# Altium integrated library PartsLib.IntLib: 63 symbols (part 2 of 3)
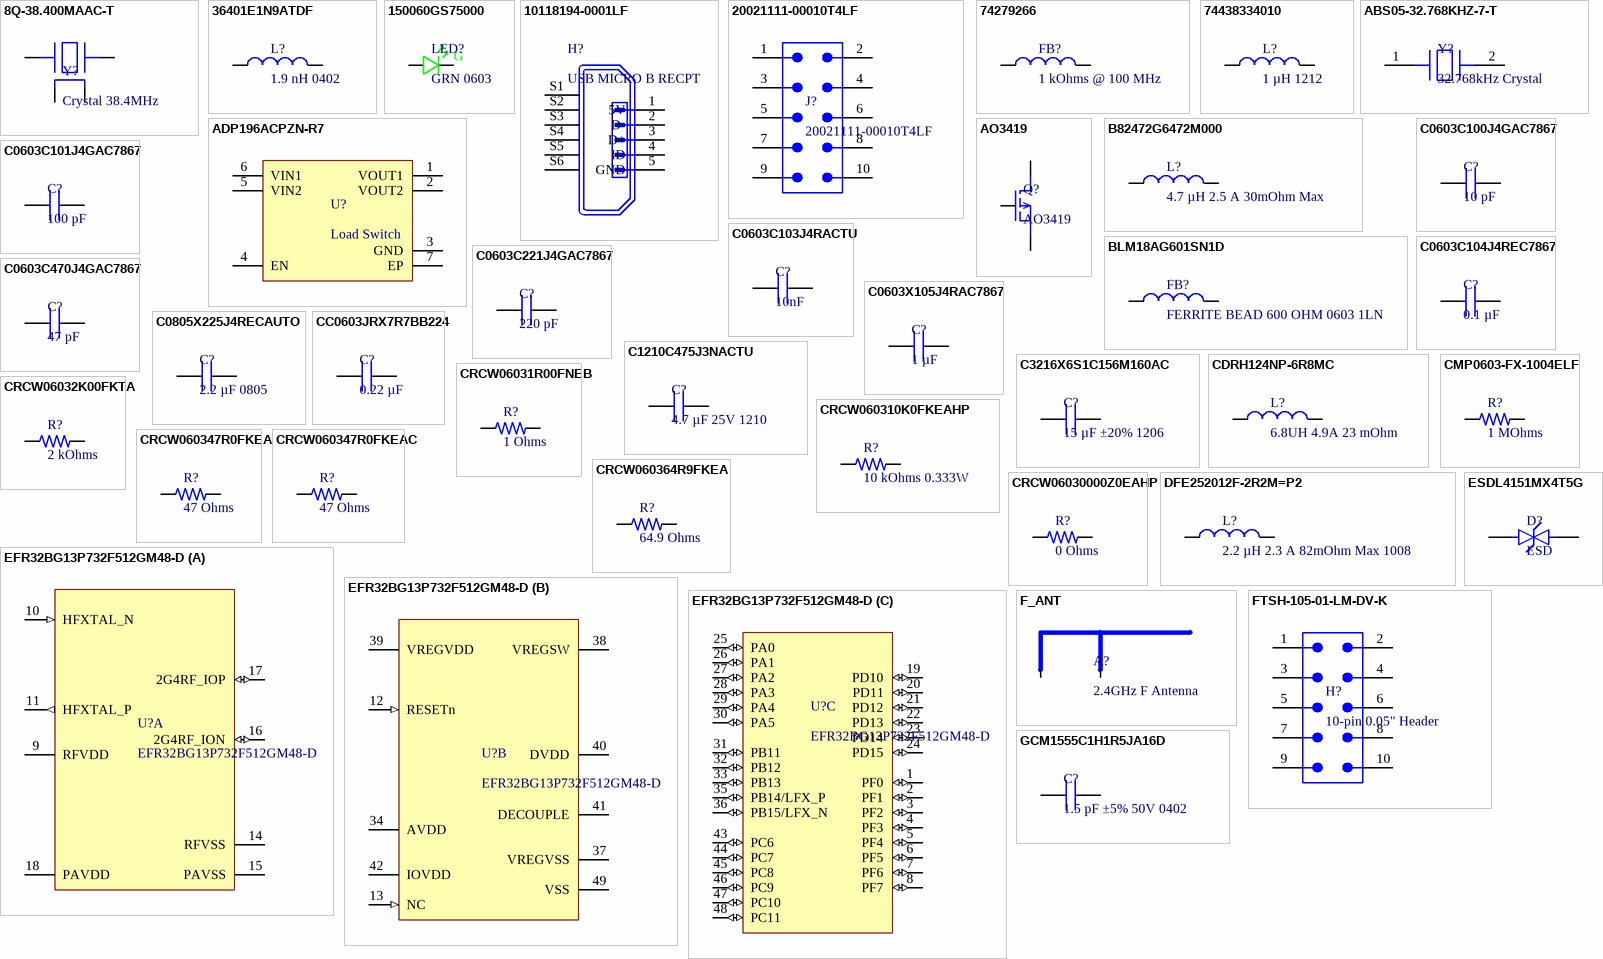
[diagram p2: symbols 8Q-38.400MAAC-T to GCM1555C1H1R5JA16D]

## CRCW060347R0FKEA
designator R?, comment 47 Ohms
Res Thick Film 0603 47 Ohm 1% 1/10W ±100ppm/°C Molded SMD Paper T/R; Manufacturer: Vishay; Manufacturer Part Number: CRCW060347R0FKEA; Resistance: 47R; Power Rating: 100mW; Voltage Rating: 75V; Supplier 1: Digi-Key; RoHS: Yes; Category: Chip SMD Resistors; Stock 1: 1816; Pricing 1: 1=0.10000, 10=0.03800, 100=0.01560, 1000=0.00701, 2500=0.00608 (USD); Mount: Surface Mount; Case/Package: 0603; Number of Pins: 2; Weight: 7.1E-05oz; Case Code (Metric): 1608; Case Code (Imperial): 0603; Contact Plating: Tin; Size Code: 0603; Min Operating Temperature: -55°C; Max Operating Temperature: 155°C; Resistor Type: Thick Film; Tolerance: 1%; Packaging: Tape and Reel; Package Quantity: 10; Number of Terminations: 2; Termination: SMD/SMT; Temperature Coefficient: 100ppm/°C; Max Power Dissipation: 100mW; Voltage Rating (DC): 75V; Features: Automotive AEC-Q200; Series: CRCW; Resistance Tolerance: 1%; Construction: Rectangular; Technology: THICK FILM; Length: 1.55mm; Width: 0.033inch; Height: 0.45mm; Depth: 0.85mm; Radiation Hardening: No; REACH SVHC: Unknown; Military Standard: Not; Lead Free: Lead Free; RoHS Compliant: Yes; ComponentLink1URL: https://datasheet.ciiva.com/11810/0900766b80d98afc-11810171.pdf?src-supplier=RSComponents; ComponentLink1Description: https://datasheet.ciiva.com/11810/0900766b80d98afc-11810171.pdf?src-supplier=RSComponents; ComponentLink2URL: https://datasheet.ciiva.com/2465/dcrcwe3-2465675.pdf?src-supplier=Digi-Key; ComponentLink2Description: https://datasheet.ciiva.com/2465/dcrcwe3-2465675.pdf?src-supplier=Digi-Key; ComponentLink3URL: https://datasheet.ciiva.com/2465/dcrcwe3-2465676.pdf?src-supplier=Digi-Key; ComponentLink3Description: https://datasheet.ciiva.com/2465/dcrcwe3-2465676.pdf?src-supplier=Digi-Key; ComponentLink4URL: https://datasheet.ciiva.com/2465/dcrcwe3-2465677.pdf?src-supplier=Digi-Key; ComponentLink4Description: https://datasheet.ciiva.com/2465/dcrcwe3-2465677.pdf?src-supplier=Digi-Key; ComponentLink5URL: https://datasheet.ciiva.com/3257/dcrcwe3-3257637.pdf?src-supplier=Avnet; ComponentLink5Description: https://datasheet.ciiva.com/3257/dcrcwe3-3257637.pdf?src-supplier=Avnet; ComponentLink6URL: https://datasheet.ciiva.com/5549/dcrcwe3-109170-5549100.pdf?src-supplier=Mouser; ComponentLink6Description: https://datasheet.ciiva.com/5549/dcrcwe3-109170-5549100.pdf?src-supplier=Mouser; ComponentLink7URL: https://datasheet.ciiva.com/26316/fld-crcw-e3-data-en-26316558.pdf?src-supplier=Distrelec; ComponentLink7Description: https://datasheet.ciiva.com/26316/fld-crcw-e3-data-en-26316558.pdf?src-supplier=Distrelec; ComponentLink8URL: https://datasheet.ciiva.com/22872/70201119-22872069.pdf?src-supplier=Allied+Electronics; ComponentLink8Description: https://datasheet.ciiva.com/22872/70201119-22872069.pdf?src-supplier=Allied+Electronics; ComponentLink9URL: https://datasheet.ciiva.com/22700/1697337-22700364.pdf?src-supplier=Element14; ComponentLink9Description: https://datasheet.ciiva.com/22700/1697337-22700364.pdf?src-supplier=Element14; ComponentLink10URL: https://datasheet.ciiva.com/16777/70201119-16777404.pdf?src-supplier=Allied+Electronics; ComponentLink10Description: https://datasheet.ciiva.com/16777/70201119-16777404.pdf?src-supplier=Allied+Electronics; ComponentLink11URL: https://datasheet.ciiva.com/7777/1697337-7777333.pdf?src-supplier=Element14; ComponentLink11Description: https://datasheet.ciiva.com/7777/1697337-7777333.pdf?src-supplier=Element14; ComponentLink12URL: https://datasheet.ciiva.com/7777/1697337-7777334.pdf?src-supplier=Element14; ComponentLink12Description: https://datasheet.ciiva.com/7777/1697337-7777334.pdf?src-supplier=Element14
footprint RESC0603X05N (Chip Resistor, 2-Leads, Body 1.58x0.85mm, IPC Medium Density)
pins: 1, 2

## CRCW060347R0FKEAC
designator R?, comment 47 Ohms
Res Thick Film 0603 47 Ohm 1% 1/10W ±100ppm/°C Molded SMD Paper T/R; Manufacturer: Vishay Semiconductors; Manufacturer Part Number: CRCW060347R0FKEAC; Resistance: 47R; Power Rating: 100mW; Supplier 1: Digi-Key; RoHS: Yes; Category: Chip SMD Resistors; Stock 1: 3057; Pricing 1: 1=0.10000, 10=0.03600, 100=0.01450, 1000=0.00652, 2500=0.00566 (USD); Mount: Surface Mount; Case/Package: Molded; Contact Plating: Tin; Min Operating Temperature: -55°C; Max Operating Temperature: 155°C; Resistor Type: Thick Film; Termination: Wraparound; Tolerance: 1%; Temperature Coefficient: 100ppm/°C; Length: 1.55mm; Lead Free: Lead Free; RoHS Compliant: Yes; ComponentLink1URL: http://www.vishay.com/docs/28773/crcwce3.pdf?src-supplier=Digi-Key; ComponentLink1Description: http://www.vishay.com/docs/28773/crcwce3.pdf?src-supplier=Digi-Key; ComponentLink2URL: http://www.vishay.com/docs/20035/dcrcwe3.pdf?src-supplier=Avnet+Asia; ComponentLink2Description: http://www.vishay.com/docs/20035/dcrcwe3.pdf?src-supplier=Avnet+Asia
footprint RESC0603X06N (Chip Resistor, 2-Leads, Body 1.60x0.85mm, IPC Medium Density)
pins: 1, 2

## CRCW060364R9FKEA
designator R?, comment 64.9 Ohms
Res Thick Film 0603 64.9 Ohm 1% 1/10W ±100ppm/°C Molded SMD SMD Paper T/R; Manufacturer: Vishay; Manufacturer Part Number: CRCW060364R9FKEA; Resistance: 64.9R; Power Rating: 100mW; Voltage Rating: 75V; Supplier 1: Digi-Key; RoHS: Yes; Category: Chip SMD Resistors; Stock 1: 23690; Pricing 1: 1=0.10000, 10=0.03800, 100=0.01560, 1000=0.00701, 2500=0.00608 (USD); Case/Package: 0603; Number of Pins: 2; Case Code (Metric): 1608; Case Code (Imperial): 0603; Contact Plating: Tin; Weight: 7.1E-05oz; Min Operating Temperature: -55°C; Max Operating Temperature: 155°C; Package Quantity: 10; Tolerance: 1%; Packaging: Tape and Reel; Resistor Type: Thick Film; Number of Terminations: 2; Max Power Dissipation: 100mW; Temperature Coefficient: 100ppm/°C; Features: Automotive AEC-Q200; Series: CRCW; Termination: SMD/SMT; Voltage Rating (DC): 75V; Resistance Tolerance: 1%; Construction: Rectangular; Length: 1.55mm; Width: 0.033inch; Height: 0.02inch; Depth: 0.85mm; Radiation Hardening: No; RoHS Compliant: Yes; REACH SVHC: Unknown; Military Standard: Not; Lead Free: Lead Free; ComponentLink1URL: https://datasheet.ciiva.com/2525/dcrcwe3-2525455.pdf?src-supplier=Digi-Key; ComponentLink1Description: https://datasheet.ciiva.com/2525/dcrcwe3-2525455.pdf?src-supplier=Digi-Key; ComponentLink2URL: https://datasheet.ciiva.com/2525/dcrcwe3-2525457.pdf?src-supplier=Digi-Key; ComponentLink2Description: https://datasheet.ciiva.com/2525/dcrcwe3-2525457.pdf?src-supplier=Digi-Key; ComponentLink3URL: https://datasheet.ciiva.com/3257/dcrcwe3-3257816.pdf?src-supplier=Avnet; ComponentLink3Description: https://datasheet.ciiva.com/3257/dcrcwe3-3257816.pdf?src-supplier=Avnet; ComponentLink4URL: https://datasheet.ciiva.com/2525/dcrcwe3-2525456.pdf?src-supplier=Digi-Key; ComponentLink4Description: https://datasheet.ciiva.com/2525/dcrcwe3-2525456.pdf?src-supplier=Digi-Key; ComponentLink5URL: https://datasheet.ciiva.com/5541/dcrcwe3-109170-5541133.pdf?src-supplier=Mouser; ComponentLink5Description: https://datasheet.ciiva.com/5541/dcrcwe3-109170-5541133.pdf?src-supplier=Mouser; ComponentLink6URL: https://datasheet.ciiva.com/7823/1697337-7823000.pdf?src-supplier=Element14; ComponentLink6Description: https://datasheet.ciiva.com/7823/1697337-7823000.pdf?src-supplier=Element14; ComponentLink7URL: https://datasheet.ciiva.com/7823/1697337-7823001.pdf?src-supplier=Element14; ComponentLink7Description: https://datasheet.ciiva.com/7823/1697337-7823001.pdf?src-supplier=Element14; ComponentLink8URL: https://datasheet.ciiva.com/22674/1847332-22674604.pdf?src-supplier=Element14; ComponentLink8Description: https://datasheet.ciiva.com/22674/1847332-22674604.pdf?src-supplier=Element14; ComponentLink9URL: https://datasheet.ciiva.com/16204/dcrcwe3-16204218.pdf?src-supplier=Future+Electronics; ComponentLink9Description: https://datasheet.ciiva.com/16204/dcrcwe3-16204218.pdf?src-supplier=Future+Electronics; ComponentLink10URL: https://datasheet.ciiva.com/22705/1697337-22705559.pdf?src-supplier=Element14; ComponentLink10Description: https://datasheet.ciiva.com/22705/1697337-22705559.pdf?src-supplier=Element14
footprint RESC0603X05N (Chip Resistor, 2-Leads, Body 1.58x0.85mm, IPC Medium Density)
pins: 1, 2

## CRCW06030000Z0EAHP
designator R?, comment 0 Ohms
Res Thick Film 0603 0 Ohm Jumper Molded SMD Paper T/R; Manufacturer: Vishay Dale; Manufacturer Part Number: CRCW06030000Z0EAHP; Resistance: 0R; Power Rating: 250mW; Voltage Rating: 75V; Temperature Coefficient: 0ppm/°C; Supplier 1: Digi-Key; RoHS: Yes; Category: Chip SMD Resistors; Pricing 1: 1=0.14000, 10=0.11800, 25=0.08560, 50=0.06200, 100=0.04600, 250=0.03532, 500=0.02782, 1000=0.01926 (USD); Mount: Surface Mount; Case/Package: 0603; Number of Pins: 2; Contact Plating: Tin; Weight: 7.1E-05oz; Case Code (Metric): 1608; Case Code (Imperial): 0603; Size Code: 0603; Min Operating Temperature: -55°C; Max Operating Temperature: 155°C; Resistor Type: Thick Film; Package Quantity: 5000; Packaging: Tape and Reel; Number of Terminations: 2; Termination: SMD/SMT; Max Power Dissipation: 250mW; Voltage Rating (DC): 75V; Features: Automotive AEC-Q200; Series: CRCW-HP; Technology: THICK FILM; Construction: Rectangular; Length: 1.6mm; Width: 0.033inch; Height: 0.45mm; Depth: 0.85mm; Radiation Hardening: No; REACH SVHC: Unknown; Military Standard: Not; Lead Free: Lead Free; RoHS Compliant: Yes; ComponentLink1URL: https://datasheet.ciiva.com/8340/crcwhpe3-8340198.pdf?src-supplier=Avnet; ComponentLink1Description: https://datasheet.ciiva.com/8340/crcwhpe3-8340198.pdf?src-supplier=Avnet; ComponentLink2URL: https://datasheet.ciiva.com/2472/crcwhpe3-2472033.pdf?src-supplier=Digi-Key; ComponentLink2Description: https://datasheet.ciiva.com/2472/crcwhpe3-2472033.pdf?src-supplier=Digi-Key; ComponentLink3URL: https://datasheet.ciiva.com/2472/crcwhpe3-2472034.pdf?src-supplier=Digi-Key; ComponentLink3Description: https://datasheet.ciiva.com/2472/crcwhpe3-2472034.pdf?src-supplier=Digi-Key; ComponentLink4URL: https://datasheet.ciiva.com/2472/crcwhpe3-2472035.pdf?src-supplier=Digi-Key; ComponentLink4Description: https://datasheet.ciiva.com/2472/crcwhpe3-2472035.pdf?src-supplier=Digi-Key; ComponentLink5URL: https://datasheet.ciiva.com/16430/crcwhpe3-16430059.pdf?src-supplier=Future+Electronics; ComponentLink5Description: https://datasheet.ciiva.com/16430/crcwhpe3-16430059.pdf?src-supplier=Future+Electronics; ComponentLink6URL: https://datasheet.ciiva.com/28621/1912814-28621358.pdf?src-supplier=Element14; ComponentLink6Description: https://datasheet.ciiva.com/28621/1912814-28621358.pdf?src-supplier=Element14
footprint RESC0603X06N (Chip Resistor, 2-Leads, Body 1.60x0.85mm, IPC Medium Density)
pins: 1, 2

## DFE252012F-2R2M=P2
designator L?, comment 2.2 µH 2.3 A 82mOhm Max 1008
Inductor Power Chip Shielded Wirewound 2.2uH 20% 1MHz Metal 2.3A 0.082Ohm DCR 1008 T/R; Manufacturer: Murata; Manufacturer Part Number: DFE252012F-2R2M=P2; Core Material: Ferrite; Saturation Current: 3.6A; DC Resistance (DCR): 82mR; Supplier 1: Digi-Key; RoHS: Yes; Category: Fixed Inductors; Stock 1: 31483; Pricing 1: 1=0.37000, 10=0.32800, 25=0.28680, 50=0.24580, 100=0.22530, 250=0.20480, 500=0.19252, 1000=0.14746 (USD); Mount: Surface Mount; Case/Package: 1008; Case Code (Metric): 2520; Case Code (Imperial): 1008; Min Operating Temperature: -40°C; Max Operating Temperature: 125°C; Packaging: Tape and Reel; Inductance: 2.2uH; Current Rating: 2.3A; Shielding: Shielded; Test Frequency: 1MHz; Tolerance: 20%; Length: 0.098inch; Width: 0.079inch; Height - Seated (Max): 0.047inch; RoHS Compliant: Yes; ComponentLink1URL: http://www.farnell.com/datasheets/2616790.pdf?src-supplier=Farnell; ComponentLink1Description: http://www.farnell.com/datasheets/2616790.pdf?src-supplier=Farnell; ComponentLink2URL: https://www.murata.com/~/media/webrenewal/products/inductor/chip/tokoproducts/wirewoundmetalalloychiptype/m_dfe252012f.ashx?src-supplier=Digi-Key; ComponentLink2Description: https://www.murata.com/~/media/webrenewal/products/inductor/chip/tokoproducts/wirewoundmetalalloychiptype/m_dfe252012f.ashx?src-supplier=Digi-Key
footprint INDC1008X12N (Chip Inductor, 2-Leads, Body 2.50x2.00mm, IPC Medium Density)
pins: 1, 2

## EFR32BG13P732F512GM48-D
designator U?
Blue Gecko QFN48 2.4 G 19 dB BLE/Proprietary 512 kB 64 kB(RAM) 31GPIO; Manufacturer: Silicon Labs; Supplier 1: Digi-Key; RoHS: Yes; Category: RF Receivers, Transceivers; Pricing 1: 1=8.42000, 10=7.72000, 25=7.01800, 80=6.31625, 230=5.78987, 440=5.26350, 945=4.78499 (USD); ComponentLink1URL: http://www.farnell.com/datasheets/2813683.pdf?src-supplier=Farnell; ComponentLink1Description: http://www.farnell.com/datasheets/2813683.pdf?src-supplier=Farnell; Supplier Part Number 1: 336-5922-ND; Manufacturer Part Number: EFR32BG13P732F512GM48-D
footprint 48-QFN_7x7 (QFN, 48-Leads, Body 7.00x7.00mm, Pitch 0.50mm, Thermal Pad 4.70x4.70mm, IPC Medium Density)
part A pins: 9 RFVDD (power) "Radio power supply", 10 HFXTAL_N (in) "High Frequency Crystal input pin", 11 HFXTAL_P (out) "High Frequency Crystal output pin", 14 RFVSS (power) "Radio Ground", 15 PAVSS (power) "Power Amplifier (PA) voltage regulator VSS", 16 2G4RF_ION (io) "2.4 GHz Differential RF input/output, negative path. This pin should be externally grounded", 17 2G4RF_IOP (io) "2.4 GHz Differential RF input/output, positive path", 18 PAVDD (power) "Power Amplifier (PA) voltage regulator VDD input"
part B pins: 12 RESETn (in) "Reset input, active low. This pin is internally pulled up to AVDD. To apply an external reset source to this pin, it is required to only drive this pin low during reset, and let the internal pull-up ensure that reset is released", 13 NC (in) "No Connect", 34 AVDD (power) "Analog power supply", 37 VREGVSS (power) "Voltage regulator VSS", 38 VREGSW (power) "DCDC regulator switching node", 39 VREGVDD (power) "Voltage regulator VDD input", 40 DVDD (power) "Digital power supply.", 41 DECOUPLE (power) "Decouple output for on-chip voltage regulator. An external decoupling capacitor is required at this pin. This pin should not be used to power any external circuits.", 42 IOVDD (power) "Digital IO power supply", 49 VSS (power) "Ground"
part C pins: 1 PF0 (io) "GPIO (5V)", 2 PF1 (io) "GPIO (5V)", 3 PF2 (io) "GPIO (5V)", 4 PF3 (io) "GPIO (5V)", 5 PF4 (io) "GPIO (5V)", 6 PF5 (io) "GPIO (5V)", 7 PF6 (io) "GPIO (5V)", 8 PF7 (io) "GPIO (5V)", 19 PD10 (io) "GPIO (5V)", 20 PD11 (io) "GPIO (5V)", 21 PD12 (io) "GPIO (5V)", 22 PD13 (io) "GPIO", 23 PD14 (io) "GPIO", 24 PD15 (io) "GPIO", 25 PA0 (io) "GPIO", 26 PA1 (io) "GPIO", 27 PA2 (io) "GPIO", 28 PA3 (io) "GPIO", 29 PA4 (io) "GPIO", 30 PA5 (io) "GPIO (5V)", 31 PB11 (io) "GPIO", 32 PB12 (io) "GPIO", 33 PB13 (io) "GPIO", 35 PB14/LFX_P (io) "GPIO", 36 PB15/LFX_N (io) "GPIO", 43 PC6 (io) "GPIO (5V)", 44 PC7 (io) "GPIO (5V)", 45 PC8 (io) "GPIO (5V)", 46 PC9 (io) "GPIO (5V)", 47 PC10 (io) "GPIO (5V)", 48 PC11 (io) "GPIO (5V)"

## ESDL4151MX4T5G
designator D?, comment ESD
15 V Bidirectional Low Capacitance ESD Protection Diode for High Speed Data Lines 15V; Manufacturer: ON Semiconductor; Manufacturer Part Number: ESDL4151MX4T5G; Supplier 1: Digi-Key; RoHS: Yes; Category: ESD and Circuit Protection ICs; Stock 1: 6875; Pricing 1: 1=0.49000, 10=0.36900, 100=0.23000, 500=0.15736, 1000=0.12105, 2000=0.10895 (USD); RoHS Compliant: Yes
footprint DFN65P100X26-2N (DFN, 2-Leads, Body 0.60x1.00mm, Pitch 0.65mm, IPC Medium Density)
pins: 1, 2

## F_ANT
designator A?, comment 2.4GHz F Antenna  (net tie, no BOM)
footprint F_ANT
pins: FEED "Feed to 2.4GHz F Antenna", GND "Ground"

## FTSH-105-01-LM-DV-K
designator H?, comment 10-pin 0.05" Header
Conn Unshrouded Header HDR 10 POS 1.27mm Solder ST Top Entry SMD Tube; Manufacturer: Samtec; Manufacturer Part Number: FTSH-105-01-LM-DV-K; Number of Contacts: 10; Gender: Male; Supplier 1: Digi-Key; RoHS: Yes; Category: Connectors; Stock 1: 11199; Pricing 1: 1=4.62000, 10=4.19500, 92=3.69598, 460=3.14161, 1012=2.67960 (USD); Contact Plating: Gold; Contact Material: Bronze; Housing Color: Black; Housing Material: Polymer; Min Operating Temperature: -55°C; Max Operating Temperature: 125°C; Number of Rows: 2; Termination: Solder; Packaging: Rail/Tube; Orientation: Straight; Length: 6.35mm; Pitch: 1.27mm; Depth: 3.43mm; Radiation Hardening: No; ComponentLink1URL: https://datasheet.ciiva.com/10245/ftsh-mt-10245149.pdf?src-supplier=Avnet; ComponentLink1Description: https://datasheet.ciiva.com/10245/ftsh-mt-10245149.pdf?src-supplier=Avnet; ComponentLink2URL: https://datasheet.ciiva.com/16689/ftsh-mt-16689356.pdf?src-supplier=Avnet+Europe; ComponentLink2Description: https://datasheet.ciiva.com/16689/ftsh-mt-16689356.pdf?src-supplier=Avnet+Europe
footprint FTSH-105-01-XXX-DV-K
pins: 1, 2, 3, 4, 5, 6, 7, 8, 9, 10

## GCM1555C1H1R5JA16D
designator C?, comment 1.5 pF ±5% 50V 0402
Cap Ceramic 1.5pF 50V C0G 5% Pad SMD 0402 125C Automotive T/R; Manufacturer: Murata; Manufacturer Part Number: GCM1555C1H1R5JA16D; Supplier 1: Digi-Key; RoHS: Yes; Category: Ceramic Capacitors; Stock 1: 4046; Pricing 1: 1=0.10000, 10=0.04700, 50=0.02580, 100=0.02100, 500=0.01502, 1000=0.01180, 2500=0.01072, 5000=0.00987 (USD); Mount: Surface Mount; Case/Package: 0402; Case Code (Imperial): 0402; Case Code (Metric): 1005; Min Operating Temperature: -55°C; Max Operating Temperature: 125°C; Packaging: Cut Tape; Capacitance: 1.5pF; Tolerance: 5%; Voltage Rating: 50V; Ratings: AEC-Q200; ComponentLink1URL: http://search.murata.co.jp/Ceramy/image/img/A01X/G101/ENG/GCM1555C1H1R5JA16-01.pdf?src-supplier=Digi-Key; ComponentLink1Description: http://search.murata.co.jp/Ceramy/image/img/A01X/G101/ENG/GCM1555C1H1R5JA16-01.pdf?src-supplier=Digi-Key
footprint CAPC0402X06N (Chip Capacitor, 2-Leads, Body 1.00x0.50mm, IPC Medium Density)
pins: 1, 2

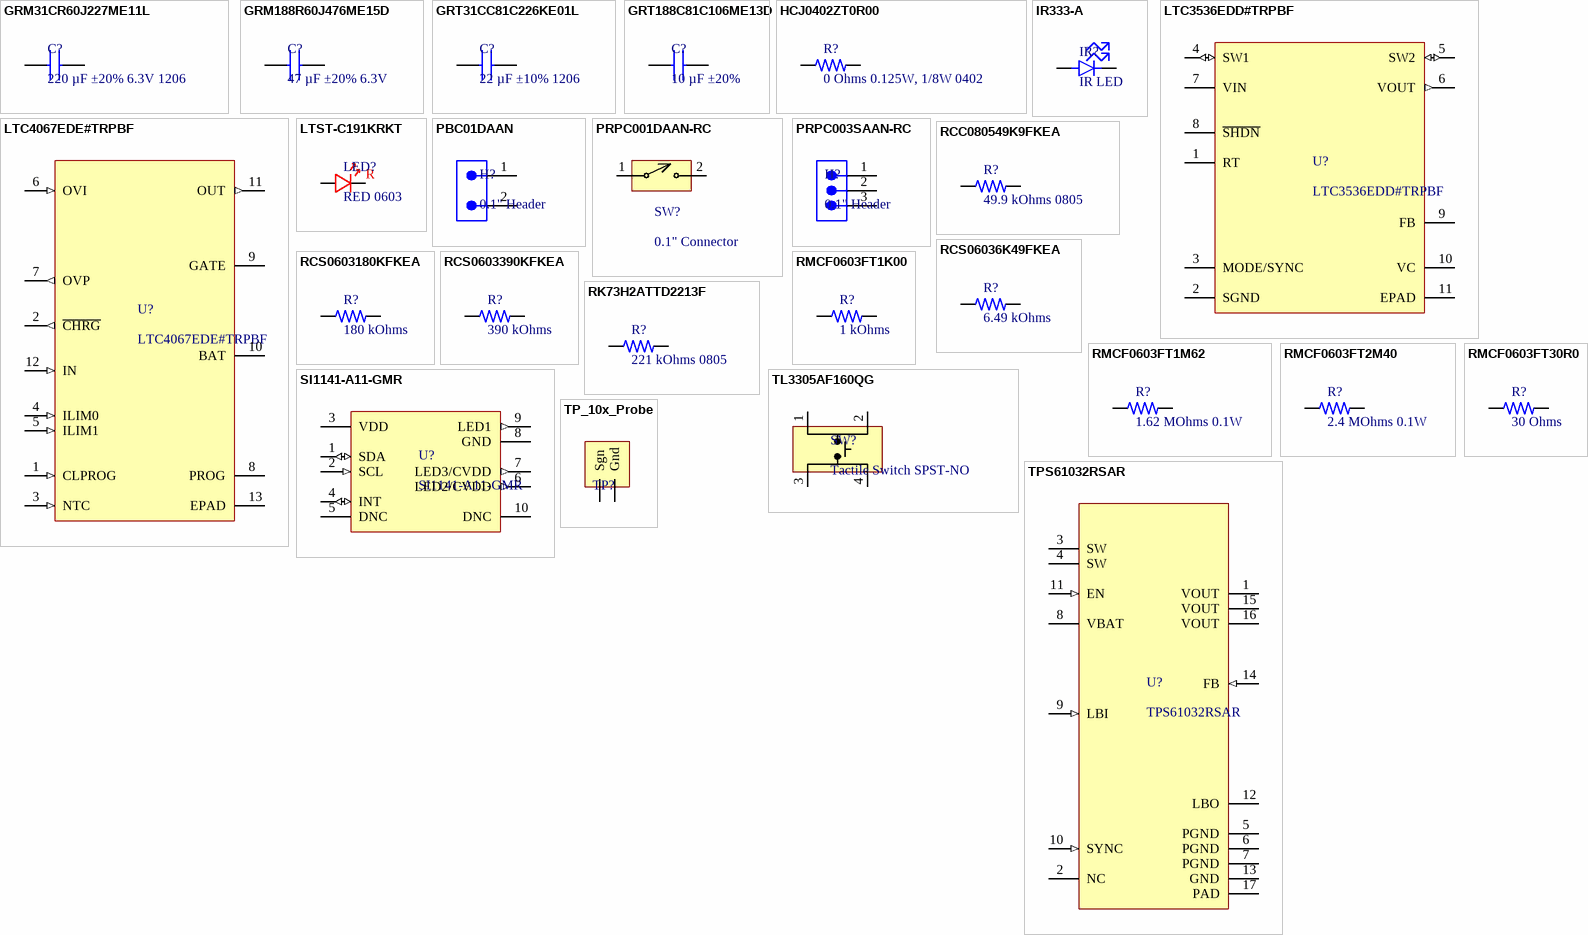
[diagram p1: symbols GRM31CR60J227ME11L to TPS61032RSAR]

## GRM31CR60J227ME11L
designator C?, comment 220 µF ±20% 6.3V 1206
1206 220 uF 6.3 V ±20% Tolernace X5R Multilayer Ceramic Capacitor; Manufacturer: Murata; Manufacturer Part Number: GRM31CR60J227ME11L; Capacitance: 220uF; Supplier 1: Digi-Key; RoHS: Yes; Category: Ceramic Capacitors; Stock 1: 229285; Pricing 1: 1=1.25000, 10=0.99000, 50=0.85820, 100=0.74260, 500=0.56112, 1000=0.49510 (USD); Mount: Surface Mount; Case/Package: 1206; Case Code (Metric): 3216; Case Code (Imperial): 1206; Min Operating Temperature: -55°C; Max Operating Temperature: 85°C; Packaging: Cut Tape; Voltage Rating: 6.3V; Dielectric: X5R; Tolerance: 20%; Voltage Rating (DC): 6.3V; Length: 0.126inch; Width: 0.063inch; Thickness: 0.075inch; REACH SVHC: No SVHC; RoHS Compliant: Yes; ComponentLink1URL: http://www.farnell.com/datasheets/2867879.pdf?src-supplier=Farnell; ComponentLink1Description: http://www.farnell.com/datasheets/2867879.pdf?src-supplier=Farnell; ComponentLink2URL: http://www.farnell.com/datasheets/2867879.pdf?src-supplier=Element14; ComponentLink2Description: http://www.farnell.com/datasheets/2867879.pdf?src-supplier=Element14; ComponentLink3URL: http://search.murata.co.jp/Ceramy/image/img/A01X/G101/ENG/GRM31CR60J227ME11-01.pdf?src-supplier=Digi-Key; ComponentLink3Description: http://search.murata.co.jp/Ceramy/image/img/A01X/G101/ENG/GRM31CR60J227ME11-01.pdf?src-supplier=Digi-Key; ComponentLink4URL: http://search.murata.co.jp/Ceramy/image/img/A01X/partnumbering_e_01.pdf?src-supplier=Digi-Key; ComponentLink4Description: http://search.murata.co.jp/Ceramy/image/img/A01X/partnumbering_e_01.pdf?src-supplier=Digi-Key; ComponentLink5URL: http://www.farnell.com/datasheets/1957826.pdf?src-supplier=Newark; ComponentLink5Description: http://www.farnell.com/datasheets/1957826.pdf?src-supplier=Newark
footprint CAPC1206X19N (Chip Capacitor, 2-Leads, Body 3.20x1.60mm, IPC Medium Density)
pins: 1, 2

## GRM188R60J476ME15D
designator C?, comment 47 µF ±20% 6.3V
0603 6.3 V 47 uF ±20% Tolerance X5R SMT Multilayer Ceramic Chp Capacitor; Manufacturer: Murata; Manufacturer Part Number: GRM188R60J476ME15D; Capacitance: 47uF; Supplier 1: Digi-Key; RoHS: Yes; Category: Ceramic Capacitors; Pricing 1: 1=0.49000, 10=0.34700, 50=0.26260, 100=0.22870, 500=0.16940, 1000=0.14399 (USD); Mount: Surface Mount; Case/Package: 0603; Case Code (Metric): 1608; Case Code (Imperial): 0603; Min Operating Temperature: -55°C; Max Operating Temperature: 85°C; Packaging: Tape and Reel; Voltage Rating: 6.3V; Tolerance: 20%; Voltage Rating (DC): 6.3V; Dielectric: X5R; Length: 0.063inch; Width: 0.031inch; Thickness: 0.039inch; RoHS Compliant: Yes; ComponentLink1URL: https://www.murata.com/~/media/webrenewal/support/library/catalog/products/capacitor/mlcc/c02e.ashx?la=en-us&src-supplier=Digi-Key; ComponentLink1Description: https://www.murata.com/~/media/webrenewal/support/library/catalog/products/capacitor/mlcc/c02e.ashx?la=en-us&src-supplier=Digi-Key; ComponentLink2URL: http://search.murata.co.jp/Ceramy/image/img/A01X/G101/ENG/GRM188R60J476ME15-01.pdf?src-supplier=Digi-Key; ComponentLink2Description: http://search.murata.co.jp/Ceramy/image/img/A01X/G101/ENG/GRM188R60J476ME15-01.pdf?src-supplier=Digi-Key
footprint CAPC0603X10N-M (Chip Capacitor, 2-Leads, Body 1.50x0.80mm, IPC Medium Density)
pins: 1, 2

## GRT31CC81C226KE01L
designator C?, comment 22 µF ±10% 1206
1206 22 uF 16 V ±10% Tolerance X6S Multilayer Ceramic Capacitor; Manufacturer: Murata; Manufacturer Part Number: GRT31CC81C226KE01L; Capacitance: 22uF; Voltage Rating: 16V; Supplier 1: Digi-Key; RoHS: Yes; Category: Ceramic Capacitors; Stock 1: 62743; Pricing 1: 1=0.56000, 10=0.39500, 50=0.29880, 100=0.26020, 500=0.19272, 1000=0.16381 (USD); Mount: Surface Mount; Case/Package: 1206; Case Code (Metric): 3216; Case Code (Imperial): 1206; Min Operating Temperature: -55°C; Max Operating Temperature: 105°C; Packaging: Tape and Reel; Tolerance: 10%; Length: 0.126inch; Width: 0.063inch; Thickness: 0.071inch; Ratings: AEC-Q200; RoHS Compliant: Yes; ComponentLink1URL: http://search.murata.co.jp/Ceramy/image/img/A01X/G101/ENG/GRT31CC81C226KE01-01.pdf?src-supplier=Digi-Key; ComponentLink1Description: http://search.murata.co.jp/Ceramy/image/img/A01X/G101/ENG/GRT31CC81C226KE01-01.pdf?src-supplier=Digi-Key
footprint CAPC1206X18N (Chip Capacitor, 2-Leads, Body 3.20x1.60mm, IPC Medium Density)
pins: 1, 2

## GRT188C81C106ME13D
designator C?, comment 10 µF ±20%
0603 10 uF 16 V ±20% Tolerance X6S Surface Mount Multilayer Ceramic Capacitor; Manufacturer: Murata; Manufacturer Part Number: GRT188C81C106ME13D; Capacitance: 10uF; Voltage Rating: 16V; Supplier 1: Digi-Key; RoHS: No; Category: Ceramic Capacitors; Stock 1: 8428; Pricing 1: 1=0.50000, 10=0.34800, 50=0.24380, 100=0.20890, 500=0.15666, 1000=0.13230 (USD); Mount: Surface Mount; Case/Package: 0603; Case Code (Metric): 1608; Case Code (Imperial): 0603; Min Operating Temperature: -55°C; Max Operating Temperature: 105°C; Packaging: Tape and Reel; Tolerance: 20%; Length: 0.063inch; Width: 0.031inch; Thickness: 0.035inch; Ratings: AEC-Q200; RoHS Compliant: No; ComponentLink1URL: http://search.murata.co.jp/Ceramy/image/img/A01X/G101/ENG/GRT188C81C106ME13-01.pdf?src-supplier=Digi-Key; ComponentLink1Description: http://search.murata.co.jp/Ceramy/image/img/A01X/G101/ENG/GRT188C81C106ME13-01.pdf?src-supplier=Digi-Key
footprint CAPC0603X10N-M (Chip Capacitor, 2-Leads, Body 1.50x0.80mm, IPC Medium Density)
pins: 1, 2

## HCJ0402ZT0R00
designator R?, comment 0 Ohms 0.125W, 1/8W 0402
HCJ Series 0402 0 Ohm 0.125 W Surface Mount Thick Film Resistor; Manufacturer: Stackpole Electronics; Manufacturer Part Number: HCJ0402ZT0R00; Resistance: 0mR; Supplier 1: Digi-Key; RoHS: Yes; Category: Chip SMD Resistors; Stock 1: 60292; Pricing 1: 1=0.50000, 10=0.38000, 25=0.28880, 50=0.21440, 100=0.15950, 250=0.13476, 500=0.11550, 1000=0.08800, 5000=0.07480 (USD); Mount: Surface Mount; Case/Package: 0402; Case Code (Metric): 1005; Case Code (Imperial): 0402; Min Operating Temperature: -55°C; Max Operating Temperature: 155°C; Package Quantity: 10000; Packaging: Tape and Reel; Number of Terminations: 2; Length: 0.039inch; Width: 0.02inch; Height: 0.015inch; Radiation Hardening: No; Lead Free: Lead Free; RoHS Compliant: Yes; ComponentLink1URL: http://www.seielect.com/Catalog/SEI-HCJ.pdf?src-supplier=Avnet; ComponentLink1Description: http://www.seielect.com/Catalog/SEI-HCJ.pdf?src-supplier=Avnet; ComponentLink2URL: https://www.seielect.com/catalog/SEI-Packaging.pdf?src-supplier=Digi-Key; ComponentLink2Description: https://www.seielect.com/catalog/SEI-Packaging.pdf?src-supplier=Digi-Key
footprint RESC0402X04N (Chip Resistor, 2-Leads, Body 1.00x0.50mm, IPC Medium Density)
pins: 1, 2

## IR333-A
designator IR?, comment IR LED
λP=940nm VF=1.2V View Angle=20; Manufacturer: Everlight; Manufacturer Part Number: IR333-A; Forward Current: 50mA; Wavelength: 940nm; Forward Voltage: 1.2V; Viewing Angle: 20°; Lens Style: Diffused,Colored,Circular; Number of LEDs: 1; Reverse Voltage: 5V; Power Dissipation: 100mW; Test Current: 20mA; Supplier 1: Digi-Key; RoHS: Yes; Category: LEDs; Stock 1: 45297; Pricing 1: 1=0.32000, 10=0.25600, 100=0.11500, 500=0.10388, 1000=0.08533, 2000=0.07420, 5000=0.06678, 10000=0.05936, 25000=0.05565 (USD); Mount: Through Hole; Case/Package: Radial; Number of Pins: 2; Min Operating Temperature: -40°C; Max Operating Temperature: 85°C; Packaging: Bulk; Package Quantity: 500; Orientation: Top View; Number of Elements: 1; Series: -; Max Power Dissipation: 100mW; Length: 5.9mm; Depth: 5.9mm; RoHS Compliant: Yes; Lead Free: Lead Free; ComponentLink1URL: https://datasheet.ciiva.com/2107/201407061516067600-2107736.pdf?src-supplier=Digi-Key; ComponentLink1Description: https://datasheet.ciiva.com/2107/201407061516067600-2107736.pdf?src-supplier=Digi-Key; ComponentLink2URL: https://datasheet.ciiva.com/48438/ir333-a-eng-tds-48438869.pdf?src-supplier=Distrelec; ComponentLink2Description: https://datasheet.ciiva.com/48438/ir333-a-eng-tds-48438869.pdf?src-supplier=Distrelec
footprint LED_THROUGH-HOLE
pins: 1, 2

## LTC3536EDD#TRPBF
designator U?
Dp-Swreg/Monolithic 1A Low Noise, Buck-Boost Dc/Dc Converter; Manufacturer: Analog Devices / Linear Technology; Output Voltage: 5.5V; Efficiency: 95%; Min Input Voltage: 1.8V; Number of Outputs: 1; Switching Frequency: 2MHz; Synchronous Rectifier: Yes; Output Type: Adjustable; Supplier 1: Digi-Key; Manufacturer Part Number: LTC3536EDD#TRPBF; RoHS: Yes; Category: Voltage Regulators - Switching; Stock 1: 9880; Pricing 1: 1=7.42000, 10=6.70000, 25=6.38880, 100=5.54720, 250=5.29788, 500=4.85100 (USD); Case/Package: DFN; Number of Pins: 10; Min Operating Temperature: -40°C; Max Operating Temperature: 125°C; Output Current: 1A; Package Quantity: 2500; Packaging: Tape and Reel; Series: -; RoHS Compliant: Yes; ComponentLink1URL: https://datasheet.ciiva.com/2032/40104-2032093.pdf?src-supplier=Digi-Key; ComponentLink1Description: https://datasheet.ciiva.com/2032/40104-2032093.pdf?src-supplier=Digi-Key
footprint SON50P300X80_HS-11N (SON, 10-Leads, Body 3.00x3.00mm, Pitch 0.50mm, Thermal Pad 1.60x0.69mm, IPC Medium Density)
pins: 1 RT, 2 SGND, 3 MODE/SYNC, 4 SW1 (io), 5 SW2 (io), 6 VOUT (out), 7 VIN, 8 ~{SHDN}, 9 FB, 10 VC, 11 EPAD

## LTC4067EDE#TRPBF
designator U?
IC USB POWER MANAGER 12-DFN; Manufacturer: Analog Devices / Linear Technology; Number of Outputs: 1; Supplier 1: Digi-Key; Manufacturer Part Number: LTC4067EDE#TRPBF; RoHS: Yes; Category: Battery Management; Stock 1: 1489; Pricing 1: 1=5.17000, 10=4.64200, 25=4.38840, 100=3.80330, 250=3.60824, 500=3.23766, 1000=3.03600 (USD); Case/Package: DFN; Number of Pins: 12; Min Operating Temperature: -40°C; Max Operating Temperature: 85°C; Package Quantity: 2500; Packaging: Tape and Reel; Number of Cells: 1; Series: -; Length: 4mm; RoHS Compliant: Yes; ComponentLink1URL: https://datasheet.ciiva.com/1933/25032-1933748.pdf?src-supplier=Digi-Key; ComponentLink1Description: https://datasheet.ciiva.com/1933/25032-1933748.pdf?src-supplier=Digi-Key
footprint SON50P300X80_HS-13N (SON, 12-Leads, Body 4.00x3.00mm, Pitch 0.50mm, Thermal Pad 1.60x0.69mm, IPC Medium Density)
pins: 1 CLPROG (in), 2 ~{CHRG} (out), 3 NTC (in), 4 ILIM0 (in), 5 ILIM1 (in), 6 OVI (in), 7 OVP (out), 8 PROG, 9 GATE, 10 BAT, 11 OUT (out), 12 IN (in), 13 EPAD

## LTST-C191KRKT
designator LED?, comment RED 0603
0603(H=0.65mm) 红色 λD=631nm VR=5V VF=2.0V~2.4V IF=20mA PD=75mW; Manufacturer: Vishay Lite-On; Manufacturer Part Number: LTST-C191KRKT; Lens Color: Colorless; Power Rating: 75mW; Luminous Intensity: 54mcd; Viewing Angle: 130°; Forward Voltage: 2V; Lens Style: Clear,Diffused,Colorless,Rectangular; Forward Current: 30mA; Dominant Wavelength: 631nm; Test Current: 20mA; Lens Transparency: Clear; Number of Elements: 1; Wavelength: 639nm; Reverse Voltage: 5V; Supplier 1: Digi-Key; RoHS: Yes; Category: LEDs; Stock 1: 9; Pricing 1: 1=0.26000, 10=0.14100, 100=0.06560, 500=0.06060, 1000=0.04747, 2000=0.04646 (USD); Mount: Surface Mount; Case/Package: 0603; Number of Pins: 2; Color: Red; Case Code (Metric): 1608; Case Code (Imperial): 0603; Min Operating Temperature: -55°C; Max Operating Temperature: 85°C; Packaging: Tape and Reel; Package Quantity: 1; Illumination Color: Red; Power Dissipation: 75mW; Number of LEDs: 1; Voltage: 2V; Length: 1.6mm; Width: 0.8mm; Height: 0.55mm; Depth: 0.8mm; Radiation Hardening: No; Lead Free: Lead Free; RoHS Compliant: Yes; ComponentLink1URL: https://datasheet.ciiva.com/11773/0900766b80dc02b2-11773601.pdf?src-supplier=RSComponents; ComponentLink1Description: https://datasheet.ciiva.com/11773/0900766b80dc02b2-11773601.pdf?src-supplier=RSComponents; ComponentLink2URL: https://datasheet.ciiva.com/12400/lite-on-ltst-c191krkt-190135-12400910.pdf?src-supplier=Mouser; ComponentLink2Description: https://datasheet.ciiva.com/12400/lite-on-ltst-c191krkt-190135-12400910.pdf?src-supplier=Mouser; ComponentLink3URL: https://datasheet.ciiva.com/16212/ltst-c191krkt-16212419.pdf?src-supplier=Future+Electronics; ComponentLink3Description: https://datasheet.ciiva.com/16212/ltst-c191krkt-16212419.pdf?src-supplier=Future+Electronics; ComponentLink4URL: https://datasheet.ciiva.com/15117/getdatasheetpartid-141922-15117737.pdf?src-supplier=Verical; ComponentLink4Description: https://datasheet.ciiva.com/15117/getdatasheetpartid-141922-15117737.pdf?src-supplier=Verical; ComponentLink5URL: https://datasheet.ciiva.com/2109/s-110-ltst-c191krkt-2109971.pdf?src-supplier=Digi-Key; ComponentLink5Description: https://datasheet.ciiva.com/2109/s-110-ltst-c191krkt-2109971.pdf?src-supplier=Digi-Key; ComponentLink6URL: https://datasheet.ciiva.com/2109/s-110-ltst-c191krkt-2109970.pdf?src-supplier=Digi-Key; ComponentLink6Description: https://datasheet.ciiva.com/2109/s-110-ltst-c191krkt-2109970.pdf?src-supplier=Digi-Key; ComponentLink7URL: https://datasheet.ciiva.com/2109/s-110-ltst-c191krkt-2109972.pdf?src-supplier=Digi-Key; ComponentLink7Description: https://datasheet.ciiva.com/2109/s-110-ltst-c191krkt-2109972.pdf?src-supplier=Digi-Key
footprint DIOC0603X06N (Chip Diode, 2-Leads, Body 1.60x0.80mm, IPC Medium Density)
pins: A, C
text: R

## PBC01DAAN
designator H?, comment 0.1" Header
CONN HEADER .100 DUAL STR 2POS; Manufacturer: Sullins; Manufacturer Part Number: PBC01DAAN; Number of Positions: 2; Gender: Male; Connector Type: Male Pin; Row Spacing: 0.1inch; Supplier 1: Digi-Key; RoHS: Yes; Category: Connectors; Stock 1: 12443; Pricing 1: 1=0.20000, 10=0.18500, 25=0.15800, 50=0.13820, 100=0.12830, 250=0.11344, 500=0.10852 (USD); Mount: Through Hole; Color: Black; Contact Plating: Gold; Housing Color: Black; Contact Material: Bronze; Housing Material: Plastic; Packaging: Bulk; Number of Rows: 2; Package Quantity: 1; Termination: Solder; Number of Contacts: 2; Contact Type: Male Pin; Length: 2.54mm; Width: 5.08mm; Height: 2.54mm; Contact Mating Length: 0.23inch; Pitch: 0.1inch; Lead Free: Lead Free; RoHS Compliant: Yes; ComponentLink1URL: http://www.sullinscorp.com/catalogs/77_PAGE108-109_.100_MALE_HDR.pdf?src-supplier=Digi-Key; ComponentLink1Description: http://www.sullinscorp.com/catalogs/77_PAGE108-109_.100_MALE_HDR.pdf?src-supplier=Digi-Key; ComponentLink2URL: http://www.sullinscorp.com/catalogs/97_Page78-79_HEADER_.100_2.54mm_MALE_BREAKAWAY.pdf?src-supplier=Future+Electronics; ComponentLink2Description: http://www.sullinscorp.com/catalogs/97_Page78-79_HEADER_.100_2.54mm_MALE_BREAKAWAY.pdf?src-supplier=Future+Electronics
footprint 2_PIN_100MIL
pins: 1, 2

## PRPC001DAAN-RC
designator SW?, comment 0.1" Connector
PBT/Brass 2 Position 2.54 mm Pitch Straight Male Breakaway Header; Manufacturer: Sullins; Manufacturer Part Number: PRPC001DAAN-RC; Number of Positions: 2; Connector Type: Male Pin; Row Spacing: 0.1inch; Supplier 1: Digi-Key; RoHS: Yes; Category: Connectors; Stock 1: 15318; Pricing 1: 1=0.08000, 10=0.07300, 25=0.05400, 50=0.04640, 100=0.04490, 250=0.03872, 500=0.03716 (USD); Mount: Through Hole; Color: Black; Contact Plating: Gold; Package Quantity: 1; Number of Rows: 2; Packaging: Bulk; Termination: Solder; Series: -; Contact Type: Male Pin; Contact Mating Length: 0.23inch; ComponentLink1URL: https://datasheet.ciiva.com/741/xrxczzzdxxn-rc-11636-b-741284.pdf?src-supplier=Digi-Key; ComponentLink1Description: https://datasheet.ciiva.com/741/xrxczzzdxxn-rc-11636-b-741284.pdf?src-supplier=Digi-Key
footprint 2Pin-Header-Conn
pins: 1, 2

## PRPC003SAAN-RC
designator H?, comment 0.1" Header
CONN HEADER VERT 3POS 2.54MM; Manufacturer: Sullins; Manufacturer Part Number: PRPC003SAAN-RC; Connector Type: Header, Unshrouded, Breakaway; Number of Positions: 3; Number of Positions Loaded: All; Pitch: 0.100" (2.54mm); Online Catalog: 0.100" (2.54mm) Pitch Connector Headers; Other Names: S9510E-03  S9510E-03-ND; Supplier 1: Digi-Key; Stock 1: 19067; Pricing 1: 1=0.12, 10=0.109, 25=0.0812, 50=0.0696, 100=0.0673, 250=0.058, 500=0.0557 (USD); Standard Package: 1; Category: Connectors, Interconnects; Family: Rectangular Connectors - Headers, Male Pins; Series: -; Packaging: Bulk; Contact Type: Male Pin; Number of Rows: 1; Row Spacing: -; Contact Mating Length: 0.230" (5.84mm); Mounting Type: Through Hole; Termination: Solder; Fastening Type: -; Features: -; Contact Finish: Gold; Contact Finish Thickness: Flash; Color: Black; ComponentLink1URL: https://media.digikey.com/PDF/Data%20Sheets/Sullins%20PDFs/xRxCzzzSxxN-RC_ST_11635-B.pdf?src-supplier=Digi-Key; ComponentLink1Description: https://media.digikey.com/PDF/Data%20Sheets/Sullins%20PDFs/xRxCzzzSxxN-RC_ST_11635-B.pdf?src-supplier=Digi-Key; Supplier Part Number 1: S1011EC-03-ND
footprint 3-PIN_MALE_HEADER_01-IN - duplicate (.025 SQ Post Terminal Strip Assembly, 1x3 Pins, Vertical, 2.54mm Pitch, Male)
pins: 1, 2, 3

## RCC080549K9FKEA
designator R?, comment 49.9 kOhms 0805
Res Thick Film 0805 49.9K Ohm 1% 0.25W(1/4W) ±100ppm/C Pad SMD Automotive T/R; Manufacturer: Vishay Dale; Manufacturer Part Number: RCC080549K9FKEA; Supplier 1: Digi-Key; RoHS: Yes; Category: Chip SMD Resistors; Stock 1: 2991; Pricing 1: 1=0.19000, 10=0.16100, 100=0.06280, 1000=0.02629, 2500=0.02410 (USD)
footprint RESC0805X05N (Chip Resistor, 2-Leads, Body 2.05x1.20mm, IPC Medium Density)
pins: 1, 2

## RCS06036K49FKEA
designator R?, comment 6.49 kOhms
RES SMD 6.49K OHM 1% 1/4W 0603; Manufacturer: Vishay Dale; Manufacturer Part Number: RCS06036K49FKEA; Resistance: 6.49kR; Max Power Dissipation: 250mW; Temperature Coefficient: 100ppm/°C; Supplier 1: Digi-Key; RoHS: Yes; Category: Chip SMD Resistors; Stock 1: 9540; Pricing 1: 1=0.15000, 10=0.13300, 100=0.05120, 1000=0.02252, 2500=0.01945 (USD); Case/Package: 0603; Min Operating Temperature: -55°C; Max Operating Temperature: 155°C; Package Quantity: 5000; Packaging: Tape and Reel; Resistor Type: Thick Film; Number of Terminations: 2; Tolerance: 1%; Features: Automotive AEC-Q200; Length: 0.061inch; Width: 0.033inch; Height: 0.02inch; ComponentLink1URL: http://www.vishay.com/docs/20065/rcse3.pdf?src-supplier=Digi-Key; ComponentLink1Description: http://www.vishay.com/docs/20065/rcse3.pdf?src-supplier=Digi-Key
footprint RESC0603X05N (Chip Resistor, 2-Leads, Body 1.58x0.85mm, IPC Medium Density)
pins: 1, 2

## RCS0603180KFKEA
designator R?, comment 180 kOhms
RES SMD 180K OHM 1% 1/4W 0603; Manufacturer: Vishay Dale; Manufacturer Part Number: RCS0603180KFKEA; Resistance: 180kR; Max Power Dissipation: 250mW; Temperature Coefficient: 100ppm/°C; Supplier 1: Digi-Key; RoHS: Yes; Category: Chip SMD Resistors; Stock 1: 4602; Pricing 1: 1=0.15000, 10=0.13300, 100=0.05120, 1000=0.02252, 2500=0.01945 (USD); Case/Package: 0603; Min Operating Temperature: -55°C; Max Operating Temperature: 155°C; Package Quantity: 5000; Packaging: Tape and Reel; Resistor Type: Thick Film; Number of Terminations: 2; Tolerance: 1%; Features: Automotive AEC-Q200; Length: 0.061inch; Width: 0.033inch; Height: 0.02inch; RoHS Compliant: Yes; ComponentLink1URL: http://www.vishay.com/docs/20065/rcse3.pdf?src-supplier=Digi-Key; ComponentLink1Description: http://www.vishay.com/docs/20065/rcse3.pdf?src-supplier=Digi-Key
footprint RESC0603X05N (Chip Resistor, 2-Leads, Body 1.58x0.85mm, IPC Medium Density)
pins: 1, 2

## RCS0603390KFKEA
designator R?, comment 390 kOhms
RES SMD 390K OHM 1% 1/4W 0603; Manufacturer: Vishay Dale; Manufacturer Part Number: RCS0603390KFKEA; Resistance: 390kR; Max Power Dissipation: 250mW; Temperature Coefficient: 100ppm/°C; Supplier 1: Digi-Key; RoHS: Yes; Category: Chip SMD Resistors; Stock 1: 4751; Pricing 1: 1=0.15000, 10=0.13300, 100=0.05120, 1000=0.02252, 2500=0.01945 (USD); Case/Package: 0603; Min Operating Temperature: -55°C; Max Operating Temperature: 155°C; Package Quantity: 5000; Packaging: Tape and Reel; Resistor Type: Thick Film; Number of Terminations: 2; Tolerance: 1%; Features: Automotive AEC-Q200; Length: 0.061inch; Width: 0.033inch; Height: 0.02inch; RoHS Compliant: Yes; ComponentLink1URL: http://www.vishay.com/docs/20065/rcse3.pdf?src-supplier=Digi-Key; ComponentLink1Description: http://www.vishay.com/docs/20065/rcse3.pdf?src-supplier=Digi-Key
footprint RESC0603X05N (Chip Resistor, 2-Leads, Body 1.58x0.85mm, IPC Medium Density)
pins: 1, 2

## RK73H2ATTD2213F
designator R?, comment 221 kOhms 0805
Res Thick Film 0805 221K Ohm 1% 0.25W(1/4W) ±100ppm/C Pad SMD Automotive T/R; Manufacturer: KOA Speer; Manufacturer Part Number: RK73H2ATTD2213F; Resistance: 221kR; Power Rating: 125mW; Voltage Rating: 150V; Temperature Coefficient: 100ppm/°C; Supplier 1: Digi-Key; RoHS: Yes; Category: Chip SMD Resistors; Stock 1: 28340; Pricing 1: 1=0.10000, 10=0.04200, 100=0.01710, 1000=0.00768, 2500=0.00666 (USD); Case/Package: 0805; Case Code (Imperial): 0805; Case Code (Metric): 2012; Min Operating Temperature: -55°C; Max Operating Temperature: 155°C; Tolerance: 1%; Packaging: Tape and Reel; Package Quantity: 5000; Termination: SMD/SMT; Voltage Rating (DC): 150V; Series: RK73H; Length: 2mm; Width: 1.25mm; Height: 0.5mm; Lead Free: Lead Free; RoHS Compliant: Yes; ComponentLink1URL: https://datasheet.ciiva.com/3882/39733851s9852373n5146-3882825.pdf?src-supplier=Arrow+Electronics; ComponentLink1Description: https://datasheet.ciiva.com/3882/39733851s9852373n5146-3882825.pdf?src-supplier=Arrow+Electronics
footprint RESC0805X06N (Chip Resistor, 2-Leads, Body 2.00x1.25mm, IPC Medium Density)
pins: 1, 2

## RMCF0603FT1K00
designator R?, comment 1 kOhms
Res Thick Film 0603 1K Ohm 1% 0.1W(1/10W) ±100ppm/C Pad SMD Automotive T/R; Manufacturer: Stackpole Electronics; Manufacturer Part Number: RMCF0603FT1K00; Resistance: 1kR; Power Rating: 100mW; Temperature Coefficient: 100ppm/°C; Supplier 1: Digi-Key; RoHS: Yes; Category: Chip SMD Resistors; Pricing 1: 1=0.10000, 10=0.01700, 100=0.00680, 1000=0.00305, 2500=0.00264 (USD); Mount: Surface Mount; Case/Package: 0603; Case Code (Metric): 1608; Case Code (Imperial): 0603; Contact Plating: Tin,Matte; Size Code: 0603; Min Operating Temperature: -55°C; Max Operating Temperature: 155°C; Tolerance: 1%; Packaging: Tape and Reel; Resistor Type: Thick Film; Number of Terminations: 2; Max Power Dissipation: 100mW; Features: Automotive AEC-Q200; Series: RMCF; Construction: Rectangular; Length: 1.55mm; Width: 0.031inch; Height: 0.022inch; Depth: 0.8mm; Radiation Hardening: No; Military Standard: Not; Lead Free: Lead Free; RoHS Compliant: Yes; ComponentLink1URL: https://www.seielect.com/catalog/sei-rmcf_rmcp.pdf?src-supplier=Digi-Key; ComponentLink1Description: https://www.seielect.com/catalog/sei-rmcf_rmcp.pdf?src-supplier=Digi-Key; ComponentLink2URL: https://www.seielect.com/catalog/SEI-RMCF_RMCP.pdf?src-supplier=Avnet; ComponentLink2Description: https://www.seielect.com/catalog/SEI-RMCF_RMCP.pdf?src-supplier=Avnet; ComponentLink3URL: https://www.seielect.com/catalog/SEI-Packaging.pdf?src-supplier=Avnet; ComponentLink3Description: https://www.seielect.com/catalog/SEI-Packaging.pdf?src-supplier=Avnet; ComponentLink4URL: https://www.seielect.com/catalog/SEI-Packaging.pdf?src-supplier=Arrow+Electronics; ComponentLink4Description: https://www.seielect.com/catalog/SEI-Packaging.pdf?src-supplier=Arrow+Electronics; ComponentLink5URL: https://www.seielect.com/catalog/SEI-RMCF_RMCP.pdf?src-supplier=Avnet+Asia; ComponentLink5Description: https://www.seielect.com/catalog/SEI-RMCF_RMCP.pdf?src-supplier=Avnet+Asia; ComponentLink6URL: http://www.seielect.com/Catalog/SEI-rmc.pdf?src-supplier=Future+Electronics; ComponentLink6Description: http://www.seielect.com/Catalog/SEI-rmc.pdf?src-supplier=Future+Electronics; ComponentLink7URL: https://www.seielect.com/catalog/SEI-Packaging.pdf?src-supplier=Verical; ComponentLink7Description: https://www.seielect.com/catalog/SEI-Packaging.pdf?src-supplier=Verical; ComponentLink8URL: https://www.seielect.com/catalog/SEI-Packaging.pdf?src-supplier=Quest; ComponentLink8Description: https://www.seielect.com/catalog/SEI-Packaging.pdf?src-supplier=Quest
footprint RESC0603X05N-2 (Chip Resistor, 2-Leads, Body 1.55x0.80mm, IPC Medium Density)
pins: 1, 2

## RMCF0603FT1M62
designator R?, comment 1.62 MOhms 0.1W
Res Thick Film 0603 1.62M Ohm 1% 1/10W ±200ppm/°C Molded SMD SMD Paper T/R; Manufacturer: Stackpole Electronics; Manufacturer Part Number: RMCF0603FT1M62; Resistance: 1.62MR; Max Power Dissipation: 100mW; Supplier 1: Digi-Key; RoHS: Yes; Category: Chip SMD Resistors; Stock 1: 124087; Pricing 1: 1=0.10000, 10=0.02500, 100=0.01020, 1000=0.00457, 2500=0.00397 (USD); Mount: Surface Mount; Case/Package: 0603; Contact Plating: Tin,Matte; Min Operating Temperature: -55°C; Max Operating Temperature: 155°C; Packaging: Tape and Reel; Tolerance: 1%; Resistor Type: Thick Film; Number of Terminations: 2; Temperature Coefficient: 200ppm/°C; Features: Automotive AEC-Q200; Series: RMCF; Length: 0.061inch; Width: 0.031inch; Height: 0.022inch; Radiation Hardening: No; RoHS Compliant: Yes; ComponentLink1URL: https://www.seielect.com/catalog/SEI-RMCF_RMCP.pdf?src-supplier=Avnet; ComponentLink1Description: https://www.seielect.com/catalog/SEI-RMCF_RMCP.pdf?src-supplier=Avnet; ComponentLink2URL: https://www.seielect.com/Catalog/SEI-RMCF_RMCP.pdf?src-supplier=Digi-Key; ComponentLink2Description: https://www.seielect.com/Catalog/SEI-RMCF_RMCP.pdf?src-supplier=Digi-Key; ComponentLink3URL: https://www.seielect.com/catalog/SEI-Packaging.pdf?src-supplier=Digi-Key; ComponentLink3Description: https://www.seielect.com/catalog/SEI-Packaging.pdf?src-supplier=Digi-Key
footprint RESC0603X05N-2 (Chip Resistor, 2-Leads, Body 1.55x0.80mm, IPC Medium Density)
pins: 1, 2

## RMCF0603FT2M40
designator R?, comment 2.4 MOhms 0.1W
Res Thick Film 0603 2.4M Ohm 1% 1/10W ±200ppm/°C Molded SMD SMD Paper T/R; Manufacturer: Stackpole Electronics; Manufacturer Part Number: RMCF0603FT2M40; Resistance: 2.4MR; Max Power Dissipation: 100mW; Supplier 1: Digi-Key; RoHS: Yes; Category: Chip SMD Resistors; Stock 1: 8694; Pricing 1: 1=0.10000, 10=0.02500, 100=0.01020, 1000=0.00457, 2500=0.00397 (USD); Mount: Surface Mount; Case/Package: 0603; Case Code (Metric): 1608; Case Code (Imperial): 0603; Contact Plating: Tin,Matte; Min Operating Temperature: -55°C; Max Operating Temperature: 155°C; Packaging: Tape and Reel; Tolerance: 1%; Resistor Type: Thick Film; Number of Terminations: 2; Package Quantity: 5000; Temperature Coefficient: 200ppm/°C; Features: Automotive AEC-Q200; Series: RMCF; Length: 0.061inch; Width: 0.031inch; Height: 0.022inch; Radiation Hardening: No; RoHS Compliant: Yes; ComponentLink1URL: https://www.seielect.com/Catalog/SEI-RMCF_RMCP.pdf?src-supplier=Digi-Key; ComponentLink1Description: https://www.seielect.com/Catalog/SEI-RMCF_RMCP.pdf?src-supplier=Digi-Key; ComponentLink2URL: https://www.seielect.com/catalog/SEI-Packaging.pdf?src-supplier=Digi-Key; ComponentLink2Description: https://www.seielect.com/catalog/SEI-Packaging.pdf?src-supplier=Digi-Key; ComponentLink3URL: https://www.seielect.com/catalog/SEI-RMCF_RMCP.pdf?src-supplier=Avnet; ComponentLink3Description: https://www.seielect.com/catalog/SEI-RMCF_RMCP.pdf?src-supplier=Avnet; ComponentLink4URL: http://www.seielect.com/Catalog/SEI-RMCF_RMCP.pdf?src-supplier=Digi-Key; ComponentLink4Description: http://www.seielect.com/Catalog/SEI-RMCF_RMCP.pdf?src-supplier=Digi-Key
footprint RESC0603X05N-2 (Chip Resistor, 2-Leads, Body 1.55x0.80mm, IPC Medium Density)
pins: 1, 2

## RMCF0603FT30R0
designator R?, comment 30 Ohms
Res Thick Film 0603 30 Ohm 1% 1/10W ±100ppm/°C Molded SMD SMD Paper T/R; Manufacturer: Stackpole Electronics; Manufacturer Part Number: RMCF0603FT30R0; Resistance: 30R; Max Power Dissipation: 100mW; Supplier 1: Digi-Key; RoHS: Yes; Category: Chip SMD Resistors; Stock 1: 3655; Pricing 1: 1=0.10000, 10=0.01700, 100=0.00680, 1000=0.00305, 2500=0.00264 (USD); Mount: Surface Mount; Case/Package: 0603; Case Code (Metric): 1608; Case Code (Imperial): 0603; Contact Plating: Tin,Matte; Min Operating Temperature: -55°C; Max Operating Temperature: 155°C; Package Quantity: 5000; Packaging: Tape and Reel; Tolerance: 1%; Resistor Type: Thick Film; Number of Terminations: 2; Temperature Coefficient: 100ppm/°C; Features: Automotive AEC-Q200; Series: RMCF; Length: 0.061inch; Width: 0.031inch; Height: 0.022inch; Radiation Hardening: No; Lead Free: Contains Lead; RoHS Compliant: Yes; ComponentLink1URL: https://www.seielect.com/catalog/SEI-RMCF_RMCP.pdf?src-supplier=Avnet; ComponentLink1Description: https://www.seielect.com/catalog/SEI-RMCF_RMCP.pdf?src-supplier=Avnet; ComponentLink2URL: https://www.seielect.com/catalog/sei-rmcf_rmcp.pdf?src-supplier=Digi-Key; ComponentLink2Description: https://www.seielect.com/catalog/sei-rmcf_rmcp.pdf?src-supplier=Digi-Key; ComponentLink3URL: https://www.seielect.com/catalog/SEI-Packaging.pdf?src-supplier=Digi-Key; ComponentLink3Description: https://www.seielect.com/catalog/SEI-Packaging.pdf?src-supplier=Digi-Key
footprint RESC0603X05N-2 (Chip Resistor, 2-Leads, Body 1.55x0.80mm, IPC Medium Density)
pins: 1, 2

## SI1141-A11-GMR
designator U?
Proximity and Ambient Light Sensor Digital Output 1.8V/2.5V/3.3V Automotive 10-Pin QFN T/R; Manufacturer: Silicon Labs; Operating Supply Voltage: 1.8V; Min Supply Voltage: 1.71V; Max Supply Voltage: 3.6V; Sensing Distance: 500mm; Output Type: I2C; Sensing Method: Optical; Output Configuration: Analog; Supplier 1: Digi-Key; Manufacturer Part Number: SI1141-A11-GMR; RoHS: Yes; Category: Optical Sensors; Stock 1: 9895; Pricing 1: 1=7.03000, 5=6.20400, 10=5.48000, 25=4.44640, 50=3.92920, 100=3.82580, 500=3.20540, 1000=2.99860 (USD); Case/Package: QFN; Number of Pins: 10; Min Operating Temperature: -40°C; Max Operating Temperature: 85°C; Package Quantity: 1; Packaging: Tape and Reel; Series: -; Radiation Hardening: No; REACH SVHC: Unknown; RoHS Compliant: Yes; ComponentLink1URL: https://datasheet.ciiva.com/8113/+si114x-8113760.pdf?src-supplier=Avnet; ComponentLink1Description: https://datasheet.ciiva.com/8113/+si114x-8113760.pdf?src-supplier=Avnet; ComponentLink2URL: https://datasheet.ciiva.com/12088/si114x-41368-12088691.pdf?src-supplier=Mouser; ComponentLink2Description: https://datasheet.ciiva.com/12088/si114x-41368-12088691.pdf?src-supplier=Mouser; ComponentLink3URL: https://datasheet.ciiva.com/2819/si114x-2819368.pdf?src-supplier=Digi-Key; ComponentLink3Description: https://datasheet.ciiva.com/2819/si114x-2819368.pdf?src-supplier=Digi-Key; ComponentLink4URL: https://datasheet.ciiva.com/2819/si114x-2819369.pdf?src-supplier=Digi-Key; ComponentLink4Description: https://datasheet.ciiva.com/2819/si114x-2819369.pdf?src-supplier=Digi-Key; ComponentLink5URL: https://datasheet.ciiva.com/2819/si114x-2819370.pdf?src-supplier=Digi-Key; ComponentLink5Description: https://datasheet.ciiva.com/2819/si114x-2819370.pdf?src-supplier=Digi-Key; ComponentLink6URL: https://datasheet.ciiva.com/26808/getdatasheetpartid-567972-26808183.pdf?src-supplier=Verical; ComponentLink6Description: https://datasheet.ciiva.com/26808/getdatasheetpartid-567972-26808183.pdf?src-supplier=Verical
footprint QFN10_2X2_SIL
pins: 1 SDA (io), 2 SCL (in), 3 VDD (power), 4 INT (io), 5 DNC, 6 LED2/CVDD (out), 7 LED3/CVDD (out), 8 GND (power), 9 LED1 (out), 10 DNC